# Altium footprint library PcbLib2.PcbLib: 35 footprints (part 2 of 3)
Each footprint in its own frame and in the unit in brackets; x right, y up, seen from the top. Pads: shape width x height; smd on the part's side, far side on the other; paste and mask are expansions set on the pad; w line width, h text height; cw(c..) or ccw(c..) is an arc to the next point about the centre after c.
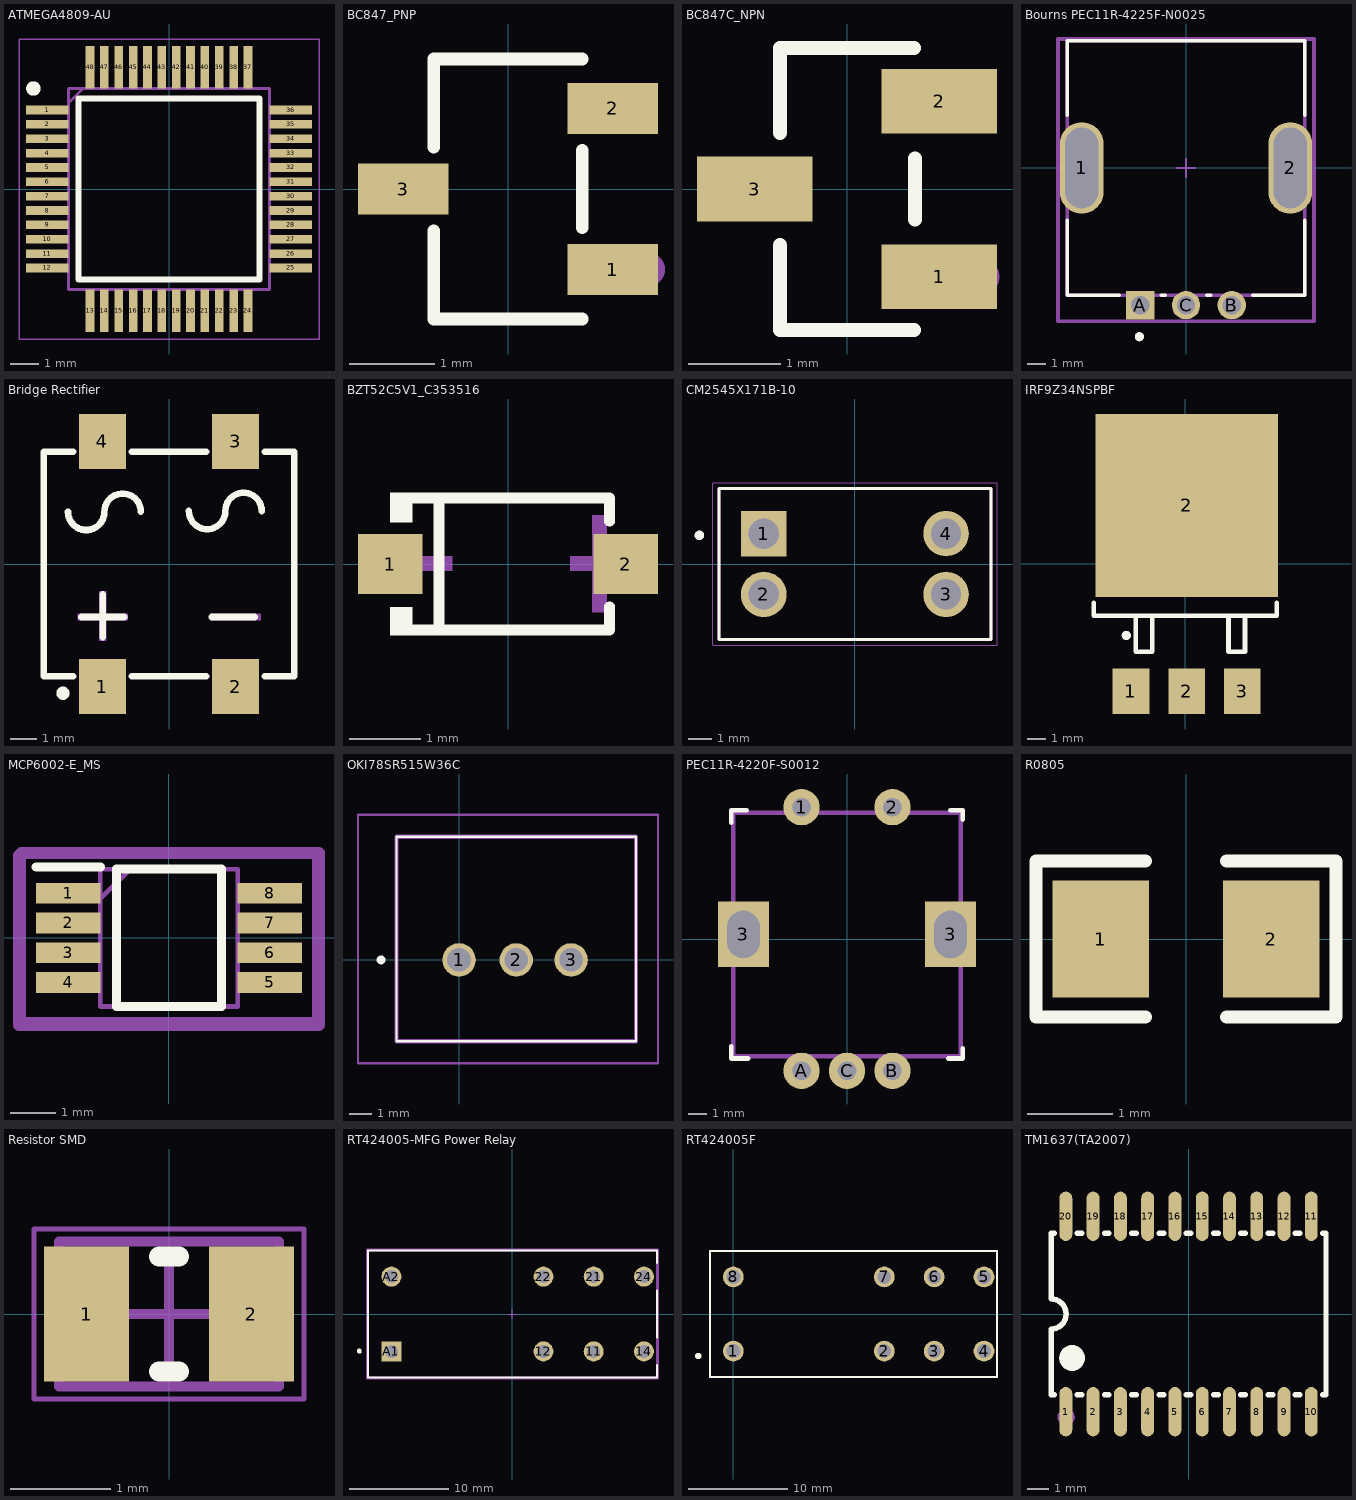
[diagram p1: the footprints below, top view; thin cyan lines are the x and y axes]

## ATMEGA4809-AU [mm]
pads (48):
  rect 1.475x0.3 smd: 1(-4.238,2.75) 2(-4.238,2.25) 3(-4.238,1.75) 4(-4.238,1.25) 5(-4.238,0.75) 6(-4.238,0.25) 7(-4.238,-0.25) 8(-4.238,-0.75) 9(-4.238,-1.25) 10(-4.238,-1.75) 11(-4.238,-2.25) 12(-4.238,-2.75) 25(4.238,-2.75) 26(4.238,-2.25) 27(4.238,-1.75) 28(4.238,-1.25) 29(4.238,-0.75) 30(4.238,-0.25) 31(4.238,0.25) 32(4.238,0.75) 33(4.238,1.25) 34(4.238,1.75) 35(4.238,2.25) 36(4.238,2.75)
  rect 0.3x1.475 smd: 13(-2.75,-4.238) 14(-2.25,-4.238) 15(-1.75,-4.238) 16(-1.25,-4.238) 17(-0.75,-4.238) 18(-0.25,-4.238) 19(0.25,-4.238) 20(0.75,-4.238) 21(1.25,-4.238) 22(1.75,-4.238) 23(2.25,-4.238) 24(2.75,-4.238) 37(2.75,4.238) 38(2.25,4.238) 39(1.75,4.238) 40(1.25,4.238) 41(0.75,4.238) 42(0.25,4.238) 43(-0.25,4.238) 44(-0.75,4.238) 45(-1.25,4.238) 46(-1.75,4.238) 47(-2.25,4.238) 48(-2.75,4.238)
Top Overlay:
  circle w0.25: c-4.725,3.5 r0.125
  lines w0.2: -3.15,-3.15 3.15,-3.15 3.15,3.15 -3.15,3.15 -3.15,-3.15
Mechanical 15:
  lines w0.1: -3.5,3 -3,3.5 ; -3.5,-3.5 3.5,-3.5 3.5,3.5 -3.5,3.5 -3.5,-3.5
Bottom Assembly:
  lines w0.05: -5.225,-5.225 5.225,-5.225 5.225,5.225 -5.225,5.225 -5.225,-5.225
3D body "ATMEGA4809-AU.stp": height 5.8, standoff -4.65, extent -9.982,-3.376 10.018,3.376

## BC847_PNP [mm]
pads (3):
  rect 1.07x0.6 smd: 1(1.235,-0.95) 2(1.235,0.95) 3(-1.235,0)
Top Overlay:
  lines w0.152: -0.876,-0.495 -0.876,-1.536 0.876,-1.536 ; -0.876,0.495 -0.876,1.536 0.876,1.536 ; 0.876,-0.455 0.876,0.455
Mechanical 15:
  circle w0.2: c1.651,-0.95 r0.1

## BC847C_NPN [mm]
pads (3):
  rect 1.25x0.7 smd: 1(1,-0.95) 2(1,0.95) 3(-1,0)
Top Overlay:
  lines w0.152: -0.726,-0.61 -0.726,-1.526 0.726,-1.526 ; -0.726,0.61 -0.726,1.526 0.726,1.526 ; 0.737,-0.33 0.737,0.33
Mechanical 15:
  circle w0.2: c1.45,-0.95 r0.1

## Bourns PEC11R-4225F-N0025 [mm]
pads (5):
  rrect100% 2.4x5 hole 4.4 slot 1.8 at 0 deg paste-1000 mask+0: 1(-5.7,0) 2(5.7,0)
  rect 1.55x1.55 hole 1 paste-1000 mask+0: A(-2.5,-7.5)
  round 1.55 hole 1 paste-1000 mask+0: B(2.5,-7.5) C(0,-7.5)
Top Overlay:
  circle w0.25: c-2.55,-9.225 r0.125
  lines w0.2: -6.5,-2.875 -6.5,-6.95 -3.65,-6.95 ; -6.5,2.875 -6.5,6.95 6.5,6.95 6.5,2.875 ; -1.35,-6.95 -1.15,-6.95 ; 1.15,-6.95 1.35,-6.95 ; 3.65,-6.95 6.5,-6.95 6.5,-2.875
Top 3D Body:
  lines w0.2: -6.5,-6.95 -6.5,6.95 6.5,6.95 6.5,-6.95 -6.5,-6.95
Top Courtyard:
  lines w0.2: -7,-8.375 -7,7.05 7,7.05 7,-8.375 -7,-8.375
Top Assembly:
  lines w0.2: -7,-8.375 -7,7.05 7,7.05 7,-8.375 -7,-8.375
  text ".Designator" at 0,-0.475 h1
Top Component Center:
  lines w0.1: -0.5,0 0.5,0 ; 0,-0.5 0,0.5
3D body "Enc_Bourns_PEC11R-4015F-N0024_eec.STEP": height 0.25, standoff 0, extent -7,-8.375 7,7.05

## Bridge Rectifier [mm]
pads (4):
  rect 1.8x2.1 smd: 1(-2.55,-4.7) 2(2.55,-4.7) 3(2.55,4.7) 4(-2.55,4.7)
Top Overlay:
  circle w0.254: c-4.064,-4.953 r0.127
  lines w0.254: -3.874,2 ccw(c-3.175,2) -2.477,2 cw(c-1.778,2) -1.08,2 ; -3.681,-4.3 -4.8,-4.3 -4.8,4.3 -3.681,4.3 ; -3.365,-2.032 -1.714,-2.032 ; -2.54,-2.811 -2.54,-1.16 ; -1.419,-4.3 1.419,-4.3 ; -1.419,4.3 1.419,4.3 ; 0.762,2.032 ccw(c1.46,2.032) 2.159,2.032 cw(c2.857,2.032) 3.556,2.032 ; 1.634,-2.032 3.285,-2.032 ; 3.681,-4.3 4.8,-4.3 4.8,4.3 3.681,4.3
Mechanical 15:
  region: -2.67,-2.94 -2.67,-1.04 -2.41,-1.04 -2.41,-2.94
  region: 1.61,-1.9 3.51,-1.9 3.51,-2.16 1.61,-2.16
  region: -3.49,-1.9 -1.59,-1.9 -1.59,-2.16 -3.49,-2.16

## BZT52C5V1_C353516 [mm]
pads (2):
  rect 0.91x0.84 smd: 1(-1.655,0) 2(1.655,0)
Top Overlay:
  region: -1.35,-0.61 -1.655,-0.61 -1.655,-1.002 -1.35,-1.002
  region: -1.35,0.584 -1.655,0.584 -1.655,1.002 -1.35,1.002
  lines w0.152: -1.426,-0.926 1.426,-0.926 1.426,-0.6 ; -1.426,0.926 1.426,0.926 1.426,0.6 ; -0.971,-0.926 -0.971,0.926
Mechanical 15:
  region: -1.602,0.107 -1.602,-0.097 -0.786,-0.097 -0.786,0.107
  region: 1.386,0.685 1.386,-0.675 1.182,-0.675 1.182,0.685
  region: 1.692,0.107 1.692,-0.097 0.876,-0.097 0.876,0.107

## CM2545X171B-10 [mm]
pads (4):
  rect 1.905x1.905 hole 1.27: 1(-3.81,1.27)
  round 1.905 hole 1.27: 2(-3.81,-1.27) 3(3.81,-1.27) 4(3.81,1.27)
Top Overlay:
  circle w0.2: c-6.5,1.2 r0.1
  lines w0.127: -5.69,-3.15 5.69,-3.15 5.69,3.15 -5.69,3.15 -5.69,-3.15
Mechanical 13:
  circle w0.2: c-6.5,1.2 r0.1
  lines w0.127: -5.69,-3.15 5.69,-3.15 5.69,3.15 -5.69,3.15 -5.69,-3.15
Mechanical 15:
  lines w0.05: -5.94,-3.4 -5.94,3.4 5.94,3.4 5.94,-3.4 -5.94,-3.4
3D body "step_temp.STEP": height 9.5, standoff -3.68, extent -5.69,-3.15 5.69,3.15

## IRF9Z34NSPBF [mm]
pads (4):
  rect 2x2.5 smd: 1(-2.969,-6.955) 2(0.079,-6.955) 3(3.127,-6.955)
  rect 10x10 smd: 2(0.079,3.205)
Top Overlay:
  circle w0.254: c-3.223,-3.907 r0.127
  lines w0.254: -5,-2.129 -5,-2.829 5,-2.829 5,-2.129 ; -2.715,-2.891 -2.715,-4.791 -1.815,-4.791 -1.815,-2.891 ; 2.365,-2.891 2.365,-4.791 3.265,-4.791 3.265,-2.891

## MCP6002-E_MS [mm]
pads (8):
  rect 1.4x0.45 smd: 1(-2.2,0.975) 2(-2.2,0.325) 3(-2.2,-0.325) 4(-2.2,-0.975) 5(2.2,-0.975) 6(2.2,-0.325) 7(2.2,0.325) 8(2.2,0.975)
Top Overlay:
  lines w0.2: -2.9,1.55 -1.5,1.55 ; -1.15,-1.5 -1.15,1.5 1.15,1.5 1.15,-1.5 -1.15,-1.5
Mechanical 1:
  lines w0.254: -3.277,1.803 -3.277,-1.905 3.277,-1.905 3.277,1.854 -3.226,1.854
Mechanical 15:
  lines w0.1: -1.5,0.85 -0.85,1.5 ; -1.5,-1.5 -1.5,1.5 1.5,1.5 1.5,-1.5 -1.5,-1.5
Bottom Assembly:
  lines w0.05: -3.15,-1.75 -3.15,1.75 3.15,1.75 3.15,-1.75 -3.15,-1.75

## OKI78SR515W36C [mm]
pads (3):
  round 1.519 hole 1.08: 1(0,0) 2(2.6,0) 3(5.1,0)
Top Overlay:
  lines w0.1: -2.85,-3.7 8.05,-3.7 8.05,5.6 -2.85,5.6 -2.85,-3.7
  lines w0.3: -3.6,0 cw(c-3.55,0) -3.5,0 cw(c-3.55,0) -3.6,0
Mechanical 15:
  lines w0.2: -2.85,-3.7 8.05,-3.7 8.05,5.6 -2.85,5.6 -2.85,-3.7
Bottom Assembly:
  lines w0.1: -4.6,-4.7 9.05,-4.7 9.05,6.6 -4.6,6.6 -4.6,-4.7
3D body "OKI-78SR-5_1.5-W36-C.stp": height 5.8, standoff -4.65, extent -7.315,-3.198 12.685,3.554

## PEC11R-4220F-S0012 [mm]
pads (7):
  round 2 hole 1 slot 1.005 at 0 deg: 1(-2.499,7.25) 2(2.499,7.25) A(-2.499,-7.25) B(2.499,-7.25) C(0,-7.25)
  rect 2.8x3.6 hole 1.8 slot 2.6 at 90 deg: 3(-5.7,0.249) 3(5.7,0.249)
Top Overlay:
  lines w0.254: -6.375,-5.899 -6.375,-6.575 -5.425,-6.575 ; -6.375,6.4 -6.375,7.075 -5.524,7.075 ; 5.575,-6.575 6.375,-6.575 6.375,-6.001 ; 5.674,7.075 6.375,7.075 6.375,6.575
Mechanical 15:
  lines w0.254: -6.248,-6.45 6.251,-6.45 6.251,6.951 -6.248,6.951 -6.248,-6.45

## R0805 [mm]
pads (2):
  rect 1.133x1.377 smd: 1(-1,0) 2(1,0)
Top Overlay:
  lines w0.152: -0.476,-0.917 -1.761,-0.917 -1.761,0.917 -0.476,0.917 ; 0.476,-0.917 1.761,-0.917 1.761,0.917 0.476,0.917
Top Paste:
  region: -1.7,-0.64 -1.7,0.64 -1.65,0.69 -0.5,0.69 -0.45,0.64 -0.445,0.23 -0.895,0.23 -0.895,-0.22 -0.455,-0.22 -0.45,-0.64 -0.5,-0.69 -1.65,-0.69
  region: 0.45,-0.64 0.45,-0.22 0.895,-0.22 0.895,0.23 0.455,0.23 0.45,0.64 0.5,0.69 1.65,0.69 1.7,0.64 1.7,-0.64 1.65,-0.69 0.5,-0.69

## Resistor SMD [mm] "Chip Resistor, 2-Leads, Body 2.00x1.25mm, IPC High Density"
height 0.5
pads (2):
  rect 0.85x1.35 smd: 1(-0.825,0) 2(0.825,0)
Top Overlay:
  lines w0.2: -0.1,-0.575 0.1,-0.575 ; -0.1,0.575 0.1,0.575
Mechanical 13:
  lines w0.1: -1.1,-0.725 -1.1,0.725 1.1,0.725 1.1,-0.725 -1.1,-0.725
Mechanical 15:
  lines w0.05: -1.35,-0.85 -1.35,0.85 1.35,0.85 1.35,-0.85 -1.35,-0.85
  lines w0.1: -0.5,0 0.5,0 ; 0,-0.5 0,0.5
3D body: height 0.5, standoff 0, extent -0.8,-0.725 0.8,0.725
3D body: height 0.5, standoff 0, extent -1.1,-0.725 -0.8,0.725
3D body: height 0.5, standoff 0, extent 0.8,-0.725 1.1,0.725

## RT424005-MFG Power Relay [mm]
pads (8):
  round 2 hole 1.3 paste-1000 mask+0: 11(8.15,-3.75) 12(3.11,-3.75) 14(13.19,-3.75) 21(8.15,3.75) 22(3.11,3.75) 24(13.19,3.75) A2(-12.15,3.75)
  rect 2x2 hole 1.3 paste-1000 mask+0: A1(-12.15,-3.75)
Top Overlay:
  circle w0.25: c-15.375,-3.725 r0.125
  lines w0.2: 14.5,-5.125 14.5,-6.35 -14.5,-6.35 -14.5,6.35 14.5,6.35 14.5,5.125 ; 14.5,-2.375 14.5,2.375
Top 3D Body:
  lines w0.2: -14.5,-6.35 14.5,-6.35 14.5,6.35 -14.5,6.35 -14.5,-6.35
Top Courtyard:
  lines w0.2: -14.6,-6.45 14.6,-6.45 14.6,6.45 -14.6,6.45 -14.6,-6.45
Top Assembly:
  lines w0.2: -14.6,-6.45 14.6,-6.45 14.6,6.45 -14.6,6.45 -14.6,-6.45
  text ".Designator" at 0,0.188 h1
Top Component Center:
  lines w0.1: -0.5,0 0.5,0 ; 0,-0.5 0,0.5
3D body "Relay_TE_Connectivity_RT424005_eec.STEP": height 0.25, standoff 0, extent -14.6,-6.45 14.6,6.45

## RT424005F [mm]
pads (8):
  round 2.1 hole 1.4: 1(0,-3.75) 2(15.26,-3.75) 3(20.3,-3.75) 4(25.34,-3.75) 5(25.34,3.75) 6(20.3,3.75) 7(15.26,3.75) 8(0,3.75)
Top Overlay:
  circle w0.4: c-3.547,-4.246 r0.126
  lines w0.2: -2.35,-6.35 26.65,-6.35 26.65,6.35 -2.35,6.35 -2.35,-6.35
Mechanical 15:
  lines w0.2: -2.35,-6.35 26.65,-6.35 26.65,6.35 -2.35,6.35 -2.35,-6.35
3D body "RT424005F.stp": height 5.8, standoff -4.65, extent -10,-3.376 10,3.376

## TM1637(TA2007) [mm]
pads (20):
  oval 0.6x2.3 smd: 1(-5.715,-4.55) 2(-4.445,-4.55) 3(-3.175,-4.55) 4(-1.905,-4.55) 5(-0.635,-4.55) 6(0.635,-4.55) 7(1.905,-4.55) 8(3.175,-4.55) 9(4.445,-4.55) 10(5.715,-4.55) 11(5.715,4.55) 12(4.445,4.55) 13(3.175,4.55) 14(1.905,4.55) 15(0.635,4.55) 16(-0.635,4.55) 17(-1.905,4.55) 18(-3.175,4.55) 19(-4.445,4.55) 20(-5.715,4.55)
Top Overlay:
  lines w0.254: -6.401,-0.701 ccw(c-6.405,-0.001) -6.4,0.7 -6.4,3.75 -6.246,3.75 ; -6.4,-0.7 -6.4,-3.75 -6.246,-3.75 ; -5.184,-3.75 -4.976,-3.75 ; -5.184,3.75 -4.976,3.75 ; -3.914,-3.75 -3.706,-3.75 ; -3.914,3.75 -3.706,3.75 ; -2.644,-3.75 -2.436,-3.75 ; -2.644,3.75 -2.436,3.75 ; -1.374,-3.75 -1.166,-3.75 ; -1.374,3.75 -1.166,3.75 ; -0.104,-3.75 0.104,-3.75 ; -0.104,3.75 0.104,3.75 ; 1.166,-3.75 1.374,-3.75 ; 1.166,3.75 1.374,3.75 ; 2.436,-3.75 2.644,-3.75 ; 2.436,3.75 2.644,3.75 ; 3.706,-3.75 3.914,-3.75 ; 3.706,3.75 3.914,3.75 ; 4.976,-3.75 5.184,-3.75 ; 4.976,3.75 5.184,3.75 ; 6.246,-3.75 6.4,-3.75 6.4,3.75 6.246,3.75
  lines w0.6: -5.425,-1.75 ccw(c-5.423,-2.05) -5.42,-1.75
Mechanical 15:
  circle w0.4: c-5.7,-4.8 r0.2